# EAGLE library part 6180XX330923_618015330923 (library Wurth_Connectors_WR-DSUB)
WR-DSUB Female High Density Angled PCB Connector w. Hex Screw Kind Properties Gender:Female Type:Angled Insulator Material:PBT Insulator Flammability Rating:UL94 V-0 Color:Black Contact Material:Copper Alloy Contact Plating:Selective Gold Contact Type:Stamped Shielding Material:Steel Shielding Plating:Nickel General Information Operating Temperature:-55 up to +105 °C Electrical Properties Working Voltage:60V (AC) Withstanding Voltage:1000 V (AC) Contact Resistance:30 mΩ <https://www.we-online.com/catalog/media/o33093v209%20Family_WR-DSUB_6180xx330923.jpg> Details see: https://www.we-online.com/catalog/en/DSUB_FEMALE_HIGH_DENSITY_ANGLED_PCB_CONNECTOR_W_HEX_SCREW_6180XX330923/ Updated by Yingchun, Shan 2020-01-14 2020 (C) Würth Elektronik
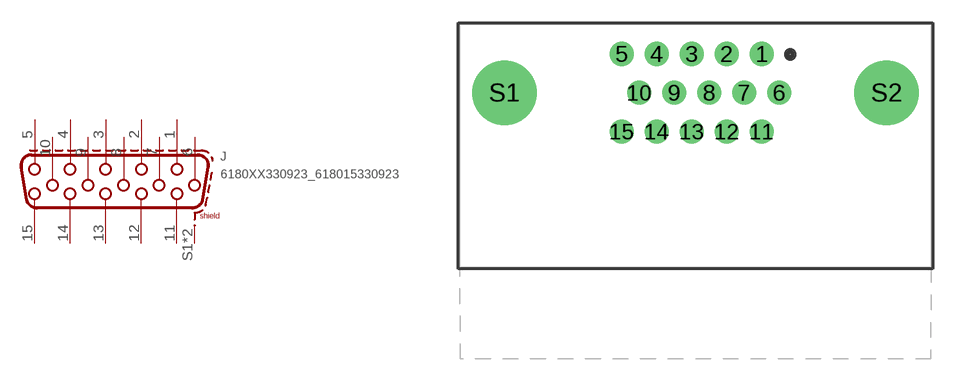
[diagram p16: symbol with the pads of 618015330923; footprint 618015330923]

Designator prefix J

## 6180XX330923_618015330923 (DATASHEET-URL: https://www.we-online.com/redexpert/spec/618015330923?ae; GENDER: Female; PART-NUMBER: 618015330923; PINS: 15; TYPE: Angled; VALUE: 618015330923; WE-NUMBER: 618015330923; WORKING-VOLTAGE: 60 V(AC))  [618015330923]
1  1
2  2
3  3
4  4
5  5
6  6
7  7
8  8
9  9
10  10
11  11
12  12
13  13
14  14
15  15
S1  SHIELD
S2  SHIELD

## Footprint 618015330923 (pad centres in mm)
WR-DSUB Female High Density Angled PCB Connector with Hex Screw, 15 Pins
drill 1.05: 1 4.326,9.02; 2 2.036,9.02; 3 -0.254,9.02; 4 -2.544,9.02; 5 -4.834,9.02; 6 5.471,6.48; 7 3.181,6.48; 8 0.891,6.48; 9 -1.399,6.48; 10 -3.689,6.48; 11 4.326,3.94; 12 2.036,3.94; 13 -0.254,3.94; 14 -2.544,3.94; 15 -4.834,3.94
drill 3.2: S1 -12.495,6.48; S2 12.495,6.48